# EAGLE library part STM32G031F (library my_ic)
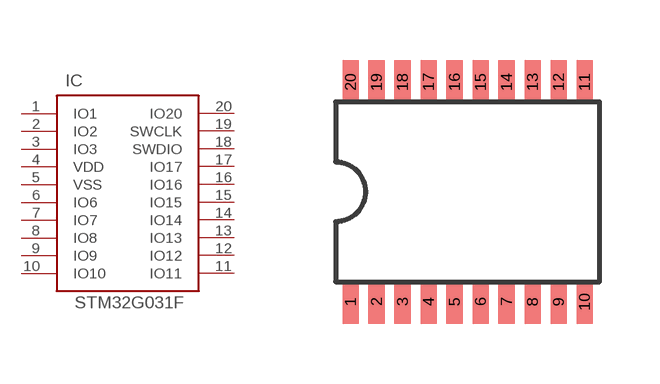
[diagram p25: symbol with the pads of TSSOP20; footprint TSSOP20]

Designator prefix IC

## STM32G031F  [TSSOP20]
1  IO1
2  IO2
3  IO3
4  VDD  pwr
5  VSS  pwr
6  IO6
7  IO7
8  IO8
9  IO9
10  IO10
11  IO11
12  IO12
13  IO13
14  IO14
15  IO15
16  IO16
17  IO17
18  SWDIO
19  SWCLK
20  IO20

## Footprint TSSOP20 (pad centres in mm)
smd 0.4 x 1.1: 1 -2.925,-2.75; 2 -2.275,-2.75; 3 -1.625,-2.75; 4 -0.975,-2.75; 5 -0.325,-2.75; 6 0.325,-2.75; 7 0.975,-2.75; 8 1.625,-2.75; 9 2.275,-2.75; 10 2.925,-2.75; 11 2.925,2.75; 12 2.275,2.75; 13 1.625,2.75; 14 0.975,2.75; 15 0.325,2.75; 16 -0.325,2.75; 17 -0.975,2.75; 18 -1.625,2.75; 19 -2.275,2.75; 20 -2.925,2.75